# Altium schematic symbol library MPZ1608S102ATA00.SchLib: 1 symbol
Pins are listed as number, name and electrical type; pins without a type are passive.

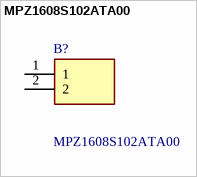
[diagram p0: symbol MPZ1608S102ATA00]

## MPZ1608S102ATA00
designator B?
1 kOhms @ 100MHz 1 Power Line Ferrite Bead 0603 (1608 Metric) 800mA 300mOhm; Manufacturer_Name: TDK; Geometry.Height: 0.95mm; Mouser Part Number: 810-MPZ1608S102ATA00; Mouser Price/Stock: https://www.mouser.co.uk/ProductDetail/TDK/MPZ1608S102ATA00?qs=8Kz9Wu9QwqXjw56MUD5REw%3D%3D; Manufacturer_Part_Number: MPZ1608S102ATA00; Datasheet Link: https://product.tdk.com/system/files/dam/doc/product/emc/emc/beads/catalog/beads_commercial_power_mpz1608_en.pdf
footprint BEADC1608X95N
pins: 1, 2